# Altium schematic symbol library Gate Driver.SchLib: 8 symbols
Pins are listed as number, name and electrical type; pins without a type are passive.

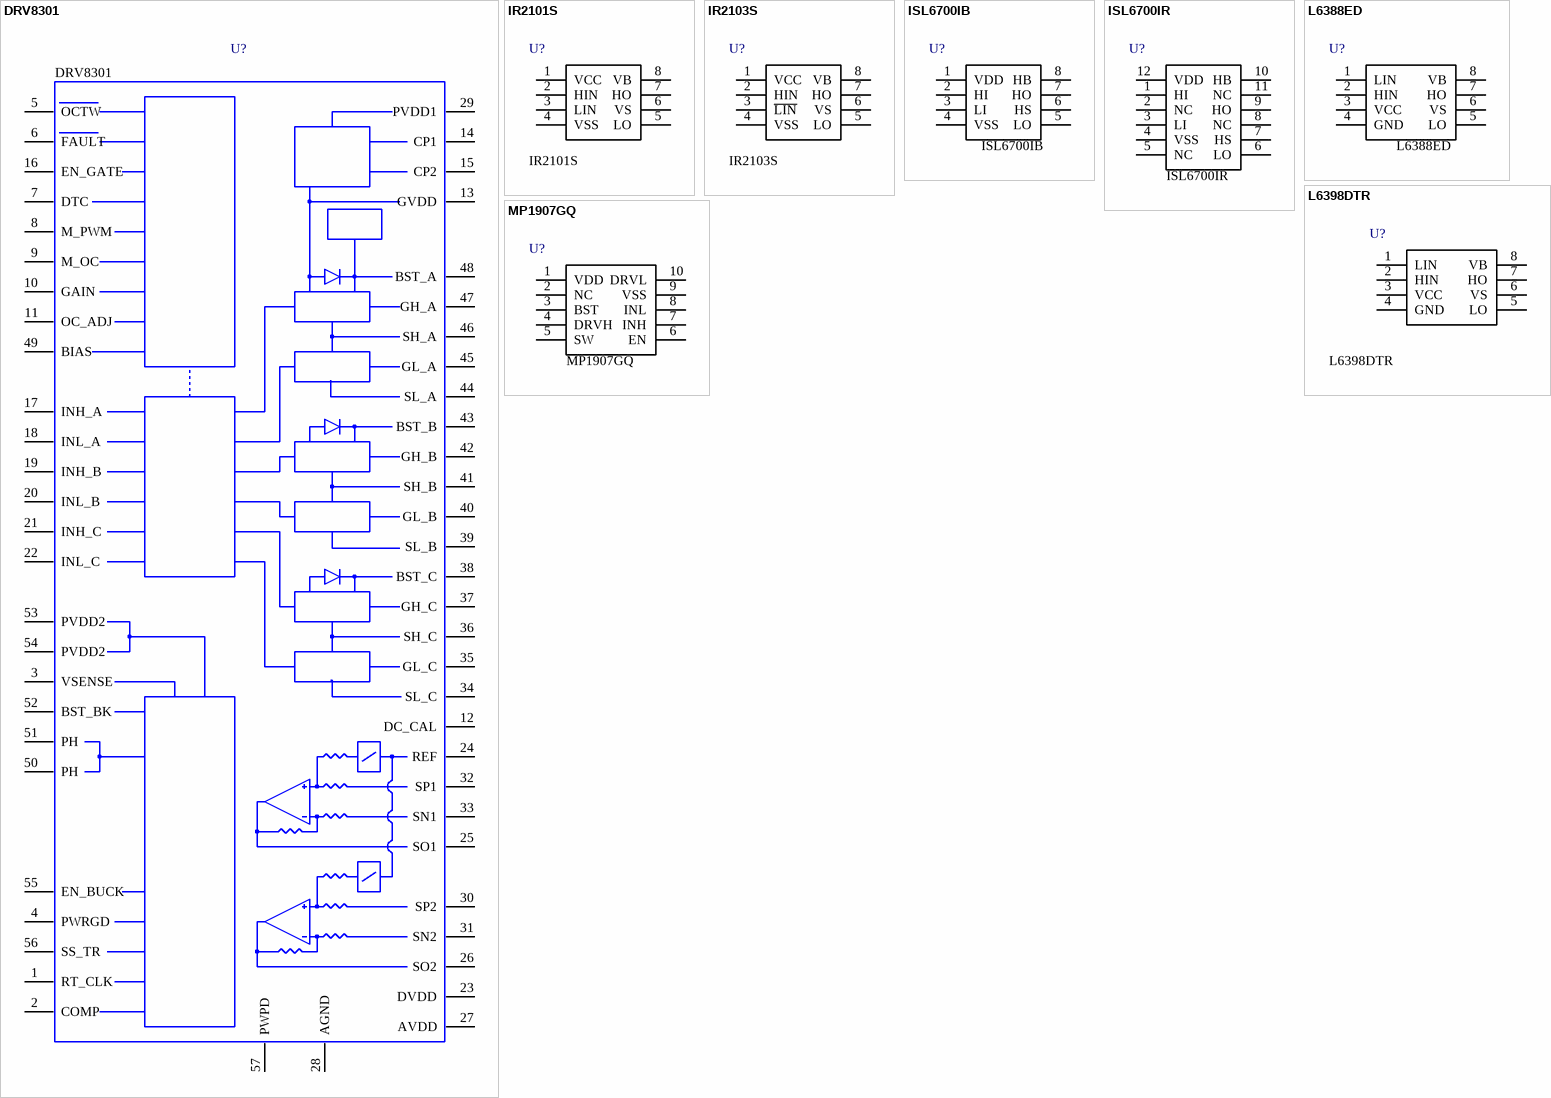
[diagram p0: symbols DRV8301 to MP1907GQ]

## DRV8301
designator U?  Global part number: DRV8301
3 Phase Pre-Driver with Dual Current Shunt Amplifiers and Buck Regulator-Hardware Controlled; Manufacturer: Texas Instruments; Size: HTSSOP-56; Mount type: SMT
footprint HTSSOP-56
pins: 1 RT_CLK, 2 COMP, 3 VSENSE, 4 PWRGD, 5 OCTW, 6 FAULT, 7 DTC, 8 M_PWM, 9 M_OC, 10 GAIN, 11 OC_ADJ, 12 DC_CAL, 13 GVDD, 14 CP1, 15 CP2, 16 EN_GATE, 17 INH_A, 18 INL_A, 19 INH_B, 20 INL_B, 21 INH_C, 22 INL_C, 23 DVDD, 24 REF, 25 SO1, 26 SO2, 27 AVDD, 28 AGND, 29 PVDD1, 30 SP2, 31 SN2, 32 SP1, 33 SN1, 34 SL_C, 35 GL_C, 36 SH_C, 37 GH_C, 38 BST_C, 39 SL_B, 40 GL_B, 41 SH_B, 42 GH_B, 43 BST_B, 44 SL_A, 45 GL_A, 46 SH_A, 47 GH_A, 48 BST_A, 49 BIAS, 50 PH, 51 PH, 52 BST_BK, 53 PVDD2, 54 PVDD2, 55 EN_BUCK, 56 SS_TR, 57 PWPD

## IR2101S
designator U?  Global part number: IR2101S
High and low side driver; Manufacture: International Rectifier; Mount type: SMT; Size: SOIC-8
footprint SOIC-8 150mil
pins: 1 VCC, 2 HIN, 3 LIN, 4 VSS, 5 LO, 6 VS, 7 HO, 8 VB

## IR2103S
designator U?  Global part number: IR2103S
High and low side driver; Manufacture: International Rectifier; Mount type: SMT; Size: SOIC-8
footprint SOIC-8 150mil
pins: 1 VCC, 2 HIN, 3 ~{LIN}, 4 VSS, 5 LO, 6 VS, 7 HO, 8 VB

## ISL6700IB
designator U?  Global part number: ISL6700IB
High and low side driver; Manufacture: Intersil; Mount type: SMT; Size: SOIC-8
footprint SOIC-8 150mil
pins: 1 VDD, 2 HI, 3 LI, 4 VSS, 5 LO, 6 HS, 7 HO, 8 HB

## ISL6700IR
designator U?  Global part number: ISL6700IR
High and low side driver; Manufacture: Intersil; Mount type: SMT; Size: QFN-12 4*4
pins: 1 HI, 2 NC, 3 LI, 4 VSS, 5 NC, 6 LO, 7 HS, 8 NC, 9 HO, 10 HB, 11 NC, 12 VDD

## L6388ED
designator U?  Global part number: L6388ED
High and low side driver; Manufacture: STMicroelectronics; Size: SOIC-8; Mount type: SMT
footprint SOIC-8 150mil
pins: 1 LIN, 2 HIN, 3 VCC, 4 GND, 5 LO, 6 VS, 7 HO, 8 VB

## L6398DTR
designator U?  Global part number: L6398DTR
High and low side driver; Manufacture: STMicroelectronics; Size: SOIC-8; Mount type: SMT
footprint SOIC-8
pins: 1 LIN, 2 HIN, 3 VCC, 4 GND, 5 LO, 6 VS, 7 HO, 8 VB

## MP1907GQ
designator U?  Global part number: MP1907GQ
High and low side driver; Manufacture: MPS; Mount type: SMT; Size: QFN-10 3*3
pins: 1 VDD, 2 NC, 3 BST, 4 DRVH, 5 SW, 6 EN, 7 INH, 8 INL, 9 VSS, 10 DRVL